# Altium schematic symbol library EEG_SYMBOLS.SchLib: 41 symbols (part 2 of 2)
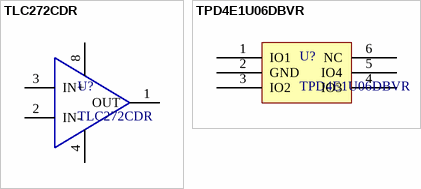
[diagram p2: symbols TLC272CDR to TPD4E1U06DBVR]

## TPD4E1U06DBVR
designator U?
IC ESD Suppressor Diode Arrays 5.5V 6-Pin SOT-23 T/R; Manufacturer: Texas Instruments; Capacitance: 1pF; Direction: Unidirectional; Polarity: Bidirectional; Number of Bidirectional Channels: 4; Min Breakdown Voltage: 6.5V; Clamping Voltage: 15V; Peak Pulse Power: 45W; Power Line Protection: Yes; Leakage Current: 10nA; Test Current: 1mA; Peak Pulse Current: 3A; Interface: Ethernet,LVDS,USB; Supplier 1: Digi-Key; Manufacturer Part Number: TPD4E1U06DBVR; Description: ESD Suppressor Diode Arrays 5.5V 6-Pin SOT-23 T/R; Stock 1: 155098; Pricing 1: 1=0.43, 10=0.346, 100=0.2353, 500=0.1765, 1000=0.1324 (USD); Mount: Surface Mount; Case/Package: SOT-23; Number of Pins: 6; Min Operating Temperature: -40°C; Max Operating Temperature: 125°C; Packaging: Tape and Reel; Package Quantity: 3000; Reverse Standoff Voltage: 5.5V; Number of Channels: 4; Breakdown Voltage: 6.5V; Termination: SMD/SMT; Operating Supply Voltage: 5.5V; Working Voltage: 5.5V; ESD Protection: Yes; Max Reverse Leakage Current: 10nA; Max Power Dissipation: 45W; Length: 3.05mm; Height: 1.3mm; Depth: 1.75mm; Width: 1.75mm; Radiation Hardening: No; REACH SVHC: No SVHC; Lead Free: Lead Free; ComponentLink1URL: https://www.verical.com/server-webapp/html/getDatasheet?partID=716791; ComponentLink1Description: https://www.verical.com/server-webapp/html/getDatasheet?partID=716791; ComponentLink2URL: http://www.ti.com/lit/ds/symlink/tpd4e1u06.pdf; ComponentLink2Description: http://www.ti.com/lit/ds/symlink/tpd4e1u06.pdf; Supplier Part Number 1: 296-35965-1-ND
footprint SOT23-6 (SOT23, 6-Leads, Body 2.00x2.10mm, Pitch 0.65mm, IPC Medium Density)
pins: 1 IO1, 2 GND, 3 IO2, 4 IO3, 5 IO4, 6 NC